# EAGLE library part TEXAS_INSTRUMENTS-MUX/DEMUX-SN74CB3Q3257PWR (library Module_ICs)
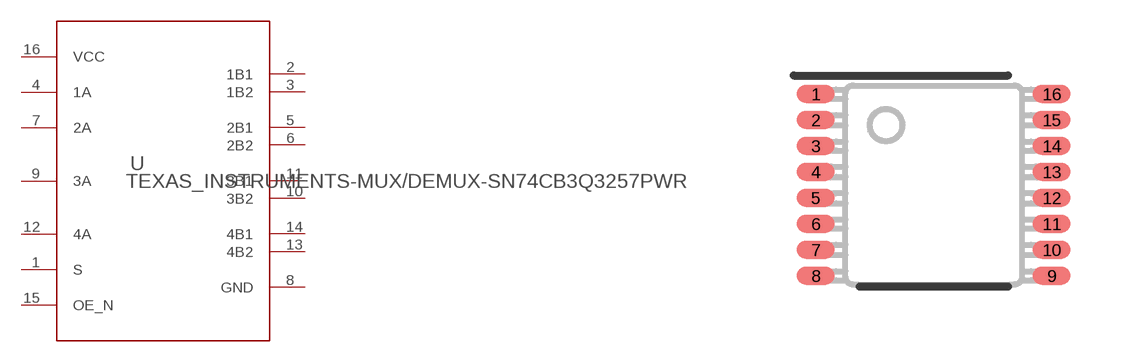
[diagram p5: symbol with the pads of TEXAS_INSTRUMENTS-MICROCONTROLLER-MSP430FR2512IPW1/MUX/DEMUX-SN74CB3Q3257PWR/DIGITAL_QUAD_SPDT-TS3L110PWR; footprint TEXAS_INSTRUMENTS-MICROCONTROLLER-MSP430FR2512IPW1/MUX/DEMUX-SN74CB3Q3257PWR/DIGITAL_QUAD_SPDT-TS3L110PWR]

Designator prefix U

## TEXAS_INSTRUMENTS-MUX/DEMUX-SN74CB3Q3257PWR (APPLICATION_BUILDNUMBER: *; COMPTYPE: IC; MANUFACTURER: Texas Instruments; MOUNTTYPE: SMT; PACKAGEREFERENCE: PW0016A; PARTNUMBER: SN74CB3Q3257PWR; PIN_COUNT: 16; REFDES: RefDes; ROHS: Y; TYPE: TYPE; VALUE: Value)  [TEXAS_INSTRUMENTS-MICROCONTROLLER-MSP430FR2512IPW1/MUX/DEMUX-SN74CB3Q3257PWR/DIGITAL_QUAD_SPDT-TS3L110PWR]
1  S  in
2  1B1
3  1B2
4  1A
5  2B1
6  2B2
7  2A
8  GND  pwr
9  3A
10  3B2
11  3B1
12  4A
13  4B2
14  4B1
15  OE_N  in
16  VCC  pwr

## Footprint TEXAS_INSTRUMENTS-MICROCONTROLLER-MSP430FR2512IPW1/MUX/DEMUX-SN74CB3Q3257PWR/DIGITAL_QUAD_SPDT-TS3L110PWR (pad centres in mm)
smd 0.95 x 0.45: 1 -2.95,2.275; 2 -2.95,1.625; 3 -2.95,0.975; 4 -2.95,0.325; 5 -2.95,-0.325; 6 -2.95,-0.975; 7 -2.95,-1.625; 8 -2.95,-2.275; 9 2.95,-2.275; 10 2.95,-1.625; 11 2.95,-0.975; 12 2.95,-0.325; 13 2.95,0.325; 14 2.95,0.975; 15 2.95,1.625; 16 2.95,2.275